# Altium footprint library LED_THT.PcbLib: 81 footprints (part 5 of 6)
Each footprint in its own frame and in the unit in brackets; x right, y up, seen from the top. Pads: shape width x height; smd on the part's side, far side on the other; paste and mask are expansions set on the pad; w line width, h text height; cw(c..) or ccw(c..) is an arc to the next point about the centre after c.
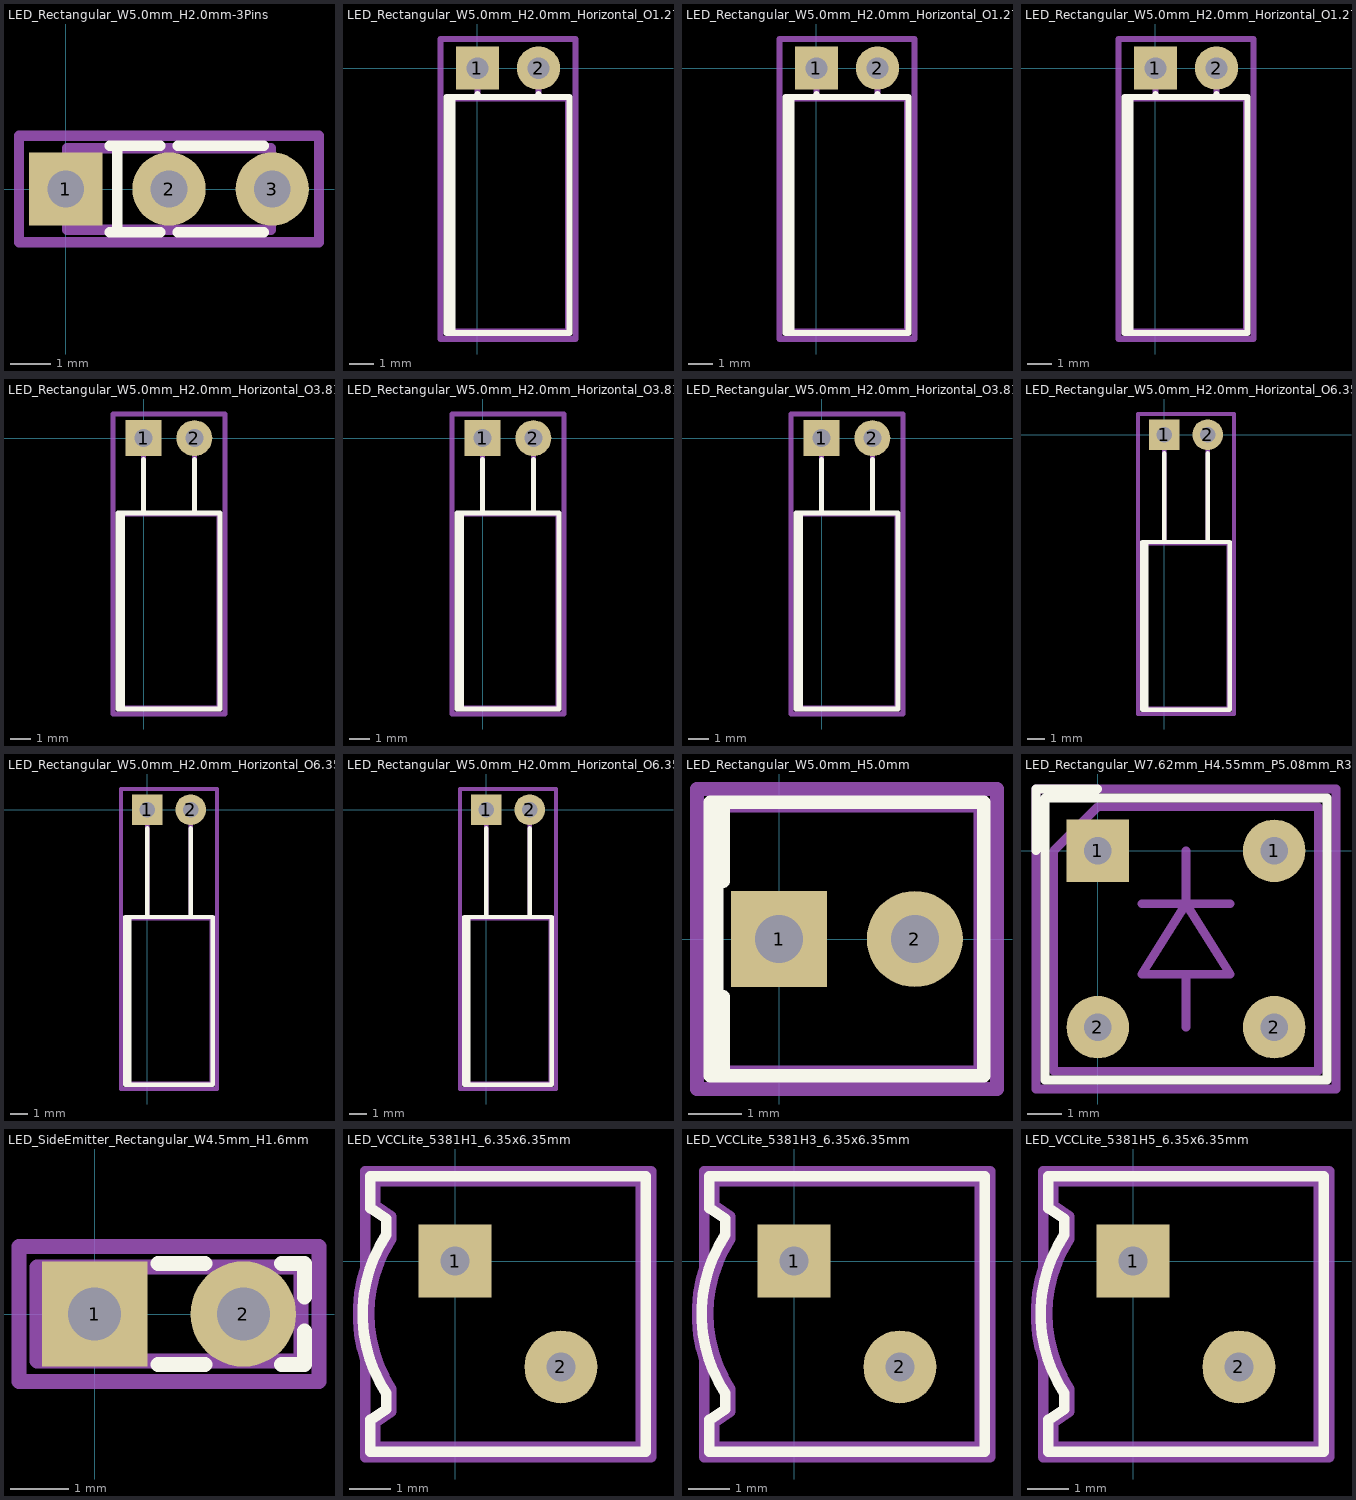
[diagram p4: the footprints below, top view; thin cyan lines are the x and y axes]

## LED_Rectangular_W5.0mm_H2.0mm-3Pins [mm]
pads (3):
  rect 1.8x1.8 hole 0.9: 1(0,0)
  round 1.8 hole 0.9: 2(2.54,0) 3(5.08,0)
F.SilkS:
  lines w0.254: 1.08,-1.06 2.333,-1.06 ; 1.08,1.06 2.333,1.06 ; 1.27,-1.06 1.27,1.06 ; 2.747,-1.06 4.873,-1.06 ; 2.747,1.06 4.873,1.06
Top Assembly:
  lines w0.254: 0.04,-1 5.04,-1 5.04,1 0.04,1 0.04,-1
  text "'.Designator'" at -0.697,-0.672 h0.8
Top Courtyard:
  lines w0.254: -1.15,-1.31 6.23,-1.31 6.23,1.31 -1.15,1.31 -1.15,-1.31
Top Designator:
  text ".Designator" at -5.078,-0.508 h1.52

## LED_Rectangular_W5.0mm_H2.0mm_Horizontal_O1.27mm_Z1.0mm [mm]
pads (2):
  rect 1.8x1.8 hole 0.9: 1(0,0)
  round 1.8 hole 0.9: 2(2.54,0)
F.SilkS:
  lines w0.254: -1.17,-11.03 -1.17,-1.21 ; -1.05,-11.03 -1.05,-1.21 ; -1.29,-11.03 3.83,-11.03 3.83,-1.21 -1.29,-1.21 -1.29,-11.03 ; 0,-1.21 0,-1.08 0,-1.21 ; 2.54,-1.21 2.54,-1.08 2.54,-1.21
Top Assembly:
  lines w0.254: -1.23,-10.97 3.77,-10.97 3.77,-1.27 -1.23,-1.27 -1.23,-10.97 ; 0,-1.27 0,0 0,-1.27 ; 2.54,-1.27 2.54,0 2.54,-1.27
  text "'.Designator'" at -1.967,-5.992 h0.8
Top Courtyard:
  lines w0.254: -1.54,-11.28 4.08,-11.28 4.08,1.21 -1.54,1.21 -1.54,-11.28
Top Designator:
  text ".Designator" at -6.468,-5.543 h1.52

## LED_Rectangular_W5.0mm_H2.0mm_Horizontal_O1.27mm_Z3.0mm [mm]
pads (2):
  rect 1.8x1.8 hole 0.9: 1(0,0)
  round 1.8 hole 0.9: 2(2.54,0)
F.SilkS:
  lines w0.254: -1.17,-11.03 -1.17,-1.21 ; -1.05,-11.03 -1.05,-1.21 ; -1.29,-11.03 3.83,-11.03 3.83,-1.21 -1.29,-1.21 -1.29,-11.03 ; 0,-1.21 0,-1.08 0,-1.21 ; 2.54,-1.21 2.54,-1.08 2.54,-1.21
Top Assembly:
  lines w0.254: -1.23,-10.97 3.77,-10.97 3.77,-1.27 -1.23,-1.27 -1.23,-10.97 ; 0,-1.27 0,0 0,-1.27 ; 2.54,-1.27 2.54,0 2.54,-1.27
  text "'.Designator'" at -1.967,-5.992 h0.8
Top Courtyard:
  lines w0.254: -1.54,-11.28 4.08,-11.28 4.08,1.21 -1.54,1.21 -1.54,-11.28
Top Designator:
  text ".Designator" at -6.468,-5.543 h1.52

## LED_Rectangular_W5.0mm_H2.0mm_Horizontal_O1.27mm_Z5.0mm [mm]
pads (2):
  rect 1.8x1.8 hole 0.9: 1(0,0)
  round 1.8 hole 0.9: 2(2.54,0)
F.SilkS:
  lines w0.254: -1.17,-11.03 -1.17,-1.21 ; -1.05,-11.03 -1.05,-1.21 ; -1.29,-11.03 3.83,-11.03 3.83,-1.21 -1.29,-1.21 -1.29,-11.03 ; 0,-1.21 0,-1.08 0,-1.21 ; 2.54,-1.21 2.54,-1.08 2.54,-1.21
Top Assembly:
  lines w0.254: -1.23,-10.97 3.77,-10.97 3.77,-1.27 -1.23,-1.27 -1.23,-10.97 ; 0,-1.27 0,0 0,-1.27 ; 2.54,-1.27 2.54,0 2.54,-1.27
  text "'.Designator'" at -1.967,-5.992 h0.8
Top Courtyard:
  lines w0.254: -1.54,-11.28 4.08,-11.28 4.08,1.21 -1.54,1.21 -1.54,-11.28
Top Designator:
  text ".Designator" at -6.468,-5.543 h1.52

## LED_Rectangular_W5.0mm_H2.0mm_Horizontal_O3.81mm_Z1.0mm [mm]
pads (2):
  rect 1.8x1.8 hole 0.9: 1(0,0)
  round 1.8 hole 0.9: 2(2.54,0)
F.SilkS:
  lines w0.254: -1.17,-13.57 -1.17,-3.75 ; -1.05,-13.57 -1.05,-3.75 ; -1.29,-13.57 3.83,-13.57 3.83,-3.75 -1.29,-3.75 -1.29,-13.57 ; 0,-3.75 0,-1.08 0,-3.75 ; 2.54,-3.75 2.54,-1.08 2.54,-3.75
Top Assembly:
  lines w0.254: -1.23,-13.51 3.77,-13.51 3.77,-3.81 -1.23,-3.81 -1.23,-13.51 ; 0,-3.81 0,0 0,-3.81 ; 2.54,-3.81 2.54,0 2.54,-3.81
  text "'.Designator'" at -1.967,-8.532 h0.8
Top Courtyard:
  lines w0.254: -1.54,-13.82 4.08,-13.82 4.08,1.21 -1.54,1.21 -1.54,-13.82
Top Designator:
  text ".Designator" at -6.468,-6.813 h1.52

## LED_Rectangular_W5.0mm_H2.0mm_Horizontal_O3.81mm_Z3.0mm [mm]
pads (2):
  rect 1.8x1.8 hole 0.9: 1(0,0)
  round 1.8 hole 0.9: 2(2.54,0)
F.SilkS:
  lines w0.254: -1.17,-13.57 -1.17,-3.75 ; -1.05,-13.57 -1.05,-3.75 ; -1.29,-13.57 3.83,-13.57 3.83,-3.75 -1.29,-3.75 -1.29,-13.57 ; 0,-3.75 0,-1.08 0,-3.75 ; 2.54,-3.75 2.54,-1.08 2.54,-3.75
Top Assembly:
  lines w0.254: -1.23,-13.51 3.77,-13.51 3.77,-3.81 -1.23,-3.81 -1.23,-13.51 ; 0,-3.81 0,0 0,-3.81 ; 2.54,-3.81 2.54,0 2.54,-3.81
  text "'.Designator'" at -1.967,-8.532 h0.8
Top Courtyard:
  lines w0.254: -1.54,-13.82 4.08,-13.82 4.08,1.21 -1.54,1.21 -1.54,-13.82
Top Designator:
  text ".Designator" at -6.468,-6.813 h1.52

## LED_Rectangular_W5.0mm_H2.0mm_Horizontal_O3.81mm_Z5.0mm [mm]
pads (2):
  rect 1.8x1.8 hole 0.9: 1(0,0)
  round 1.8 hole 0.9: 2(2.54,0)
F.SilkS:
  lines w0.254: -1.17,-13.57 -1.17,-3.75 ; -1.05,-13.57 -1.05,-3.75 ; -1.29,-13.57 3.83,-13.57 3.83,-3.75 -1.29,-3.75 -1.29,-13.57 ; 0,-3.75 0,-1.08 0,-3.75 ; 2.54,-3.75 2.54,-1.08 2.54,-3.75
Top Assembly:
  lines w0.254: -1.23,-13.51 3.77,-13.51 3.77,-3.81 -1.23,-3.81 -1.23,-13.51 ; 0,-3.81 0,0 0,-3.81 ; 2.54,-3.81 2.54,0 2.54,-3.81
  text "'.Designator'" at -1.967,-8.532 h0.8
Top Courtyard:
  lines w0.254: -1.54,-13.82 4.08,-13.82 4.08,1.21 -1.54,1.21 -1.54,-13.82
Top Designator:
  text ".Designator" at -6.468,-6.813 h1.52

## LED_Rectangular_W5.0mm_H2.0mm_Horizontal_O6.35mm_Z1.0mm [mm]
pads (2):
  rect 1.8x1.8 hole 0.9: 1(0,0)
  round 1.8 hole 0.9: 2(2.54,0)
F.SilkS:
  lines w0.254: -1.17,-16.11 -1.17,-6.29 ; -1.05,-16.11 -1.05,-6.29 ; -1.29,-16.11 3.83,-16.11 3.83,-6.29 -1.29,-6.29 -1.29,-16.11 ; 0,-6.29 0,-1.08 0,-6.29 ; 2.54,-6.29 2.54,-1.08 2.54,-6.29
Top Assembly:
  lines w0.254: -1.23,-16.05 3.77,-16.05 3.77,-6.35 -1.23,-6.35 -1.23,-16.05 ; 0,-6.35 0,0 0,-6.35 ; 2.54,-6.35 2.54,0 2.54,-6.35
  text "'.Designator'" at -1.967,-11.072 h0.8
Top Courtyard:
  lines w0.254: -1.54,-16.36 4.08,-16.36 4.08,1.21 -1.54,1.21 -1.54,-16.36
Top Designator:
  text ".Designator" at -6.468,-8.083 h1.52

## LED_Rectangular_W5.0mm_H2.0mm_Horizontal_O6.35mm_Z3.0mm [mm]
pads (2):
  rect 1.8x1.8 hole 0.9: 1(0,0)
  round 1.8 hole 0.9: 2(2.54,0)
F.SilkS:
  lines w0.254: -1.17,-16.11 -1.17,-6.29 ; -1.05,-16.11 -1.05,-6.29 ; -1.29,-16.11 3.83,-16.11 3.83,-6.29 -1.29,-6.29 -1.29,-16.11 ; 0,-6.29 0,-1.08 0,-6.29 ; 2.54,-6.29 2.54,-1.08 2.54,-6.29
Top Assembly:
  lines w0.254: -1.23,-16.05 3.77,-16.05 3.77,-6.35 -1.23,-6.35 -1.23,-16.05 ; 0,-6.35 0,0 0,-6.35 ; 2.54,-6.35 2.54,0 2.54,-6.35
  text "'.Designator'" at -1.967,-11.072 h0.8
Top Courtyard:
  lines w0.254: -1.54,-16.36 4.08,-16.36 4.08,1.21 -1.54,1.21 -1.54,-16.36
Top Designator:
  text ".Designator" at -6.468,-8.083 h1.52

## LED_Rectangular_W5.0mm_H2.0mm_Horizontal_O6.35mm_Z5.0mm [mm]
pads (2):
  rect 1.8x1.8 hole 0.9: 1(0,0)
  round 1.8 hole 0.9: 2(2.54,0)
F.SilkS:
  lines w0.254: -1.17,-16.11 -1.17,-6.29 ; -1.05,-16.11 -1.05,-6.29 ; -1.29,-16.11 3.83,-16.11 3.83,-6.29 -1.29,-6.29 -1.29,-16.11 ; 0,-6.29 0,-1.08 0,-6.29 ; 2.54,-6.29 2.54,-1.08 2.54,-6.29
Top Assembly:
  lines w0.254: -1.23,-16.05 3.77,-16.05 3.77,-6.35 -1.23,-6.35 -1.23,-16.05 ; 0,-6.35 0,0 0,-6.35 ; 2.54,-6.35 2.54,0 2.54,-6.35
  text "'.Designator'" at -1.967,-11.072 h0.8
Top Courtyard:
  lines w0.254: -1.54,-16.36 4.08,-16.36 4.08,1.21 -1.54,1.21 -1.54,-16.36
Top Designator:
  text ".Designator" at -6.468,-8.083 h1.52

## LED_Rectangular_W5.0mm_H5.0mm [mm]
pads (2):
  rect 1.8x1.8 hole 0.9: 1(0,0)
  round 1.8 hole 0.9: 2(2.54,0)
F.SilkS:
  lines w0.254: -1.17,-2.56 -1.17,2.56 ; -1.05,-2.56 -1.05,-1.08 ; -1.05,1.08 -1.05,2.56 ; -1.29,-2.56 3.83,-2.56 3.83,2.56 -1.29,2.56 -1.29,-2.56
Top Assembly:
  lines w0.254: -1.23,-2.5 3.77,-2.5 3.77,2.5 -1.23,2.5 -1.23,-2.5
  text "'.Designator'" at -1.967,-0.672 h0.8
Top Courtyard:
  lines w0.254: -1.54,-2.81 4.08,-2.81 4.08,2.81 -1.54,2.81 -1.54,-2.81
Top Designator:
  text ".Designator" at -6.468,-0.508 h1.52

## LED_Rectangular_W7.62mm_H4.55mm_P5.08mm_R3 [mm]
pads (4):
  rect 1.8x1.8 hole 0.8: 1(0,0)
  round 1.8 hole 0.8: 1(5.08,0) 2(0,-5.08) 2(5.08,-5.08)
F.SilkS:
  lines w0.254: -1.778,0 -1.778,1.778 0,1.778 ; -1.524,-6.604 6.604,-6.604 6.604,1.524 -1.524,1.524 -1.524,-6.604
Top Assembly:
  lines w0.254: 1.27,-1.524 3.81,-1.524 ; 2.54,-5.08 2.54,-3.556 ; 2.54,0 2.54,-1.524 ; 2.54,-1.524 3.81,-3.556 1.27,-3.556 2.54,-1.524 ; -1.27,-6.35 6.35,-6.35 6.35,1.27 0,1.27 -1.27,0 -1.27,-6.35
  text "'.Designator'" at -6.333,0.43 h1
Top Courtyard:
  lines w0.254: -1.78,-6.86 6.86,-6.86 6.86,1.78 -1.78,1.78 -1.78,-6.86
Top Designator:
  text ".Designator" at -7.365,-3.048 h1.52

## LED_SideEmitter_Rectangular_W4.5mm_H1.6mm [mm]
pads (2):
  rect 1.8x1.8 hole 0.9: 1(0,0)
  round 1.8 hole 0.9: 2(2.54,0)
F.SilkS:
  lines w0.254: 1.08,-0.86 1.887,-0.86 ; 1.08,0.86 1.887,0.86 ; 3.193,-0.86 3.58,-0.86 3.58,-0.291 ; 3.193,0.86 3.58,0.86 3.58,0.291
Top Assembly:
  lines w0.254: -0.98,-0.8 3.52,-0.8 3.52,0.8 -0.98,0.8 -0.98,-0.8
  text "'.Designator'" at -1.967,-0.672 h0.8
Top Courtyard:
  lines w0.254: -1.29,-1.15 3.83,-1.15 3.83,1.15 -1.29,1.15 -1.29,-1.15
Top Designator:
  text ".Designator" at -6.468,-0.508 h1.52

## LED_VCCLite_5381H1_6.35x6.35mm [mm]
pads (2):
  rect 1.75x1.75 hole 0.7: 1(0,0)
  round 1.75 hole 0.7: 2(2.54,-2.54)
F.SilkS:
  lines w0.254: -1.652,-3.174 cw(c1.27,-1.27) -1.651,0.635 -1.651,1.016 -2.032,1.27 -2.032,2.032 4.572,2.032 4.572,-4.572 -2.032,-4.572 -2.032,-3.81 -1.651,-3.556 -1.651,-3.175
Top Assembly:
  lines w0.254: -1.538,-3.057 cw(c1.27,-1.27) -1.53,0.53 -1.53,1.07 -1.91,1.33 -1.91,1.91 4.45,1.91 4.45,-4.45 -1.91,-4.45 -1.91,-3.87 -1.53,-3.61 -1.53,-3.07
  text "'.Designator'" at -2.777,-2.11 h1
Top Courtyard:
  lines w0.254: -2.15,-2.4 -2.15,-4.7 4.7,-4.7 4.7,2.15 -2.15,2.15 -2.15,-0.15 ccw(c1.27,-1.27) -2.147,-2.399
Top Designator:
  text ".Designator" at -6.498,-1.783 h1.52

## LED_VCCLite_5381H3_6.35x6.35mm [mm]
pads (2):
  rect 1.75x1.75 hole 0.7: 1(0,0)
  round 1.75 hole 0.7: 2(2.54,-2.54)
F.SilkS:
  lines w0.254: -1.652,-3.174 cw(c1.27,-1.27) -1.651,0.635 -1.651,1.016 -2.032,1.27 -2.032,2.032 4.572,2.032 4.572,-4.572 -2.032,-4.572 -2.032,-3.81 -1.651,-3.556 -1.651,-3.175
Top Assembly:
  lines w0.254: -1.538,-3.057 cw(c1.27,-1.27) -1.53,0.53 -1.53,1.07 -1.91,1.33 -1.91,1.91 4.45,1.91 4.45,-4.45 -1.91,-4.45 -1.91,-3.87 -1.53,-3.61 -1.53,-3.07
  text "'.Designator'" at -2.777,-2.11 h1
Top Courtyard:
  lines w0.254: -2.15,-2.4 -2.15,-4.7 4.7,-4.7 4.7,2.15 -2.15,2.15 -2.15,-0.15 ccw(c1.27,-1.27) -2.147,-2.399
Top Designator:
  text ".Designator" at -6.498,-1.783 h1.52

## LED_VCCLite_5381H5_6.35x6.35mm [mm]
pads (2):
  rect 1.75x1.75 hole 0.7: 1(0,0)
  round 1.75 hole 0.7: 2(2.54,-2.54)
F.SilkS:
  lines w0.254: -1.652,-3.174 cw(c1.27,-1.27) -1.651,0.635 -1.651,1.016 -2.032,1.27 -2.032,2.032 4.572,2.032 4.572,-4.572 -2.032,-4.572 -2.032,-3.81 -1.651,-3.556 -1.651,-3.175
Top Assembly:
  lines w0.254: -1.538,-3.057 cw(c1.27,-1.27) -1.53,0.53 -1.53,1.07 -1.91,1.33 -1.91,1.91 4.45,1.91 4.45,-4.45 -1.91,-4.45 -1.91,-3.87 -1.53,-3.61 -1.53,-3.07
  text "'.Designator'" at -2.777,-2.11 h1
Top Courtyard:
  lines w0.254: -2.15,-2.4 -2.15,-4.7 4.7,-4.7 4.7,2.15 -2.15,2.15 -2.15,-0.15 ccw(c1.27,-1.27) -2.147,-2.399
Top Designator:
  text ".Designator" at -6.498,-1.783 h1.52